# Altium integrated library TI Interface Optical Module IC.IntLib: 48 symbols (part 1 of 4)
Pins are listed as number, name and electrical type; pins without a type are passive.

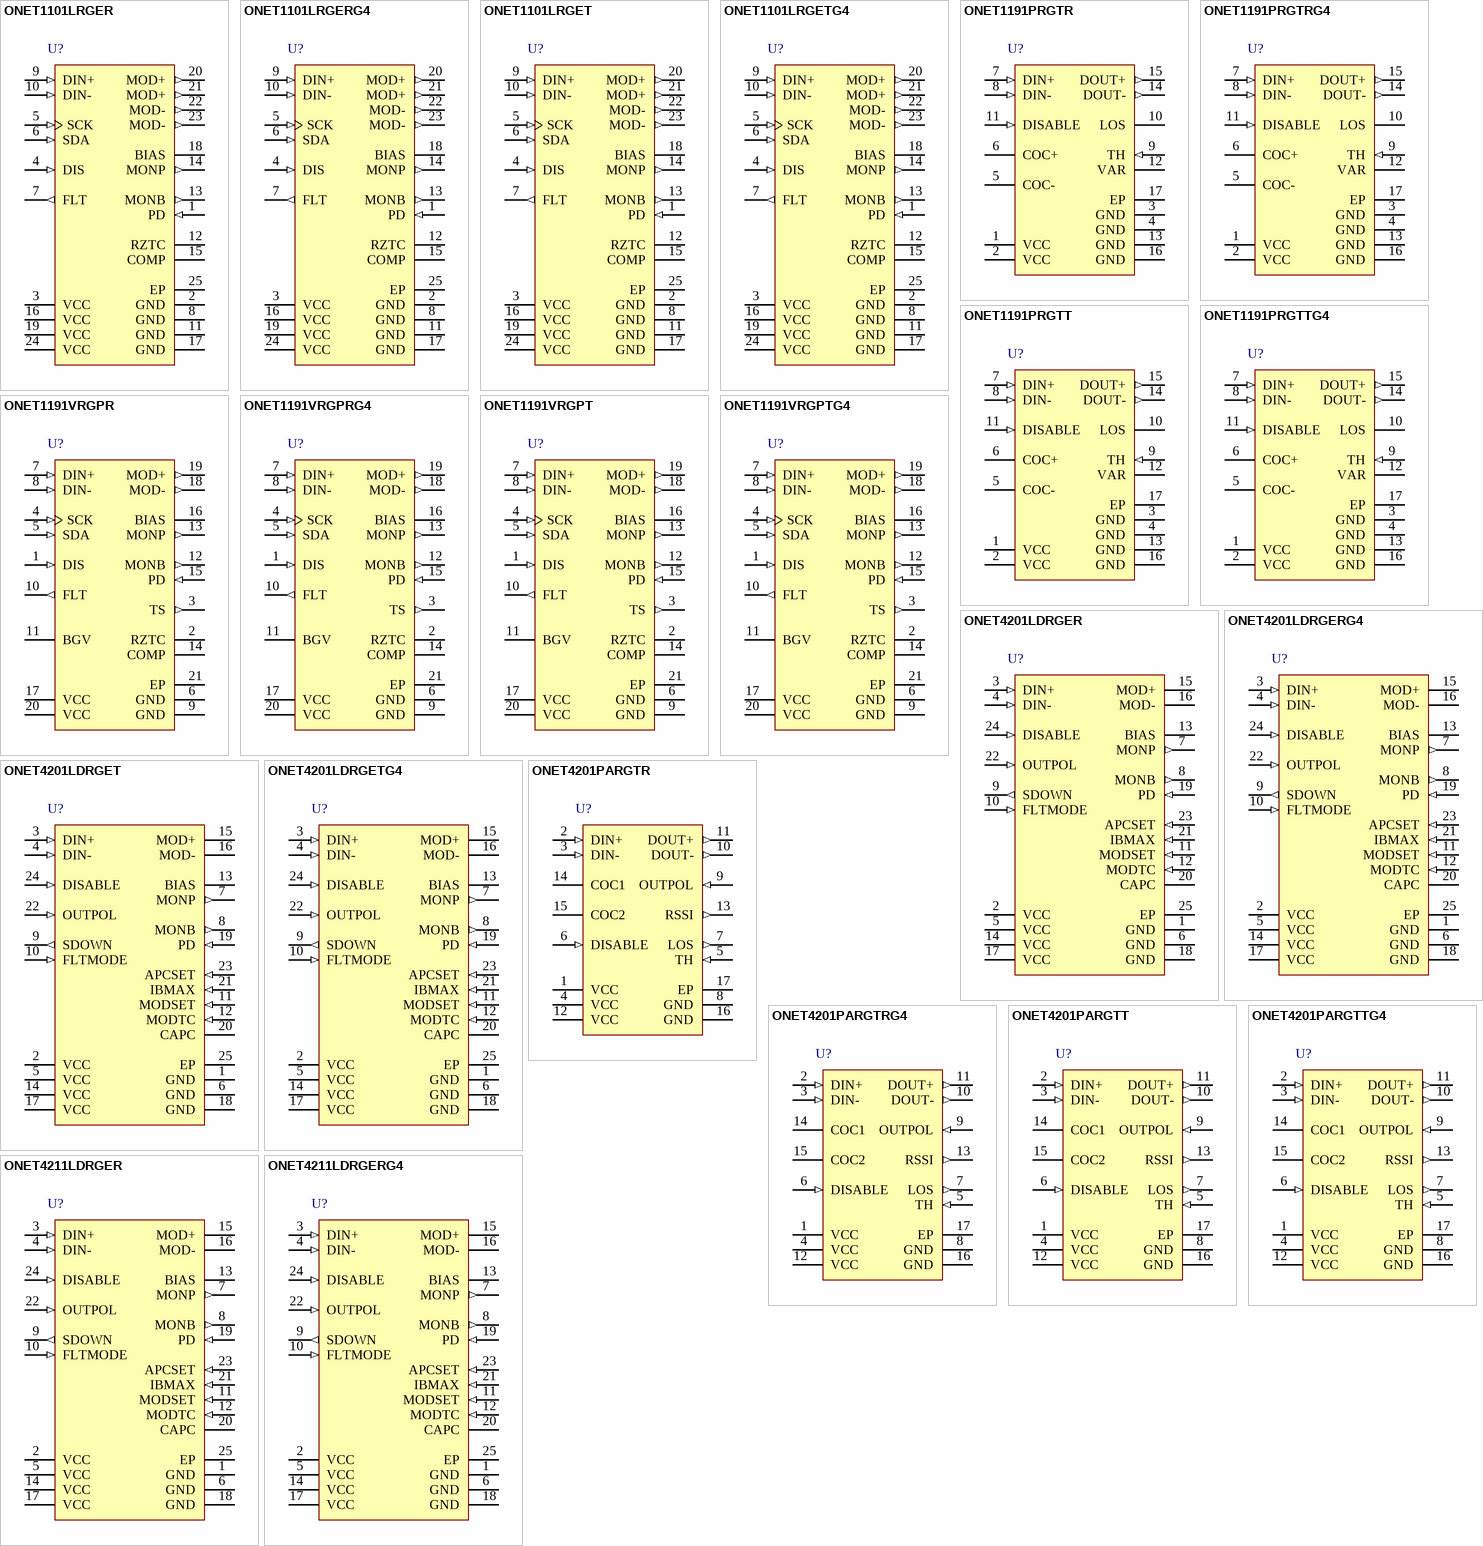
[diagram p0: symbols ONET1101LRGER to ONET4211LDRGERG4]

## ONET1101LRGER
designator U?
11.3 Gbps Laser Diode Driver with 2 Wire Interface, 85 mA Imod-Max, 3.3 V, -25 to +100 degC, 24-pin VQFN (RGE), Green (RoHS & no Sb/Br); Manufacturer: Texas Instruments; PartNumber: ONET1101LRGER; 2-Wire Interface: TRUE; Data Rate(Typ)(Gbps): 11.3; DJ(Typ)(ps): 5; Ibias-max(Max)(mA): 100; ICC(Max)(mA): 118; ICC(Typ)(mA): 66; Imod-max(Max)(mA): 85; SubFamily: Laser Driver; Tf-out(Typ)(ps): 25; VCC(V): 3.3; DatasheetVersion: SLLS883; PackageVersion: revG, Jul-2011; PackageReference: RGE24-2450X2450TP; PackageDescription: 24-Pin Plastic Quad Flatpack No-Lead, 4 x 4 mm Body, 0.5 mm Pitch; Supplier 1: Digi-Key; Supplier Part Number 1: ONET1101LRGER-ND; Supplier 2: Newark; Supplier Part Number 2: 94M8575; Supplier 3: Mouser; Supplier Part Number 3: 595-ONET1101LRGER; Automatic Power Control Loop: TRUE; Bias Current Digital Select: TRUE; Eco-Plan: Green (RoHS & no Sb/Br); Modulation Current Digital Select: TRUE; Tr-out(Typ)(ps): 25; Mounting Technology: Surface Mount; Code_JEDEC: MO-220; ComponentLink1Description: Datasheet; ComponentLink1URL: http://www.ti.com/general/docs/lit/getliterature.tsp?genericPartNumber=ONET1101L&fileType=pdf; ComponentLink2Description: URL Link1; ComponentLink2URL: SamplesURL:http://www.ti.com/product/onet1101l#samples
footprint RGE24-2450X2450TP (QFN, 24-Leads, Body 4x4mm, Pitch 0.5mm, Thermal Pad 2.45x2.45mm, TI Recommended)
pins: 1 PD (in) "Photodiode input. Pin can source or sink current dependent on register setting.", 2 GND (power) "Circuit ground.", 3 VCC (power) "3.3 V +/- 10% supply voltage.", 4 DIS (in) "Disables the bias and modulation currents when set to high state. Toggle to reset a fault condition.", 5 SCK (in) "2-wire interface serial clock. Connect a pull-up resistor (10 k ohm typical) to VCC.", 6 SDA (in) "2-wire interface serial data input. Connect a pull-up resistor (10 k ohm typical) to VCC.", 7 FLT (out) "Fault detection flag.", 8 GND (power) "Circuit ground.", 9 DIN+ (in) "Non-inverted data input. On-chip differentially 100 ohm terminated to DIN-. Must be AC coupled.", 10 DIN- (in) "Inverted data input. On-chip differentially 100 ohm terminated to DIN+. Must be AC coupled.", 11 GND (power) "Circuit ground.", 12 RZTC "Connect external zero TC 28.7 k ohm resistor to ground (GND). Used to generate a defined zero TC reference current for internal DACs.", 13 MONB (out) "Bias current monitor. Supplies a 1% replica of the bias current. Connect an external resistor to ground (GND). If the voltage at this pin exceeds 1.16 V, a fault is triggered. Choose a resistor that yields a MONB voltage of (See Datasheet)", 14 MONP (out) "Photodiode current monitor. Supplies a 12.5% replica of the photodiode current when PDRNG = 1X, a 25% replica when PDRNG = 01 and a 50% replica when PDRNG = 00.Connect an external resistor (5 k ohm typical) to ground (GND).", 15 COMP "Compensation pin used to control the bandwidth of the automatic power control (APC) loop.Connect a 0.01 uF capacitor to ground.", 16 VCC (power) "3.3 V +/- 10% supply voltage.", 17 GND (power) "Circuit ground.", 18 BIAS "Sinks or sources average bias current for laser in both APC and open loop modes.", 19 VCC (power) "3.3 V +/- 10% supply voltage.", 20 MOD+ (out) "Non-inverted modulation current output. IMOD flows into this pin when input data is high(current).", 21 MOD+ (out) "Non-inverted modulation current output. IMOD flows into this pin when input data is high(current).", 22 MOD- (out) "Inverted modulation current output. IMOD flows into this pin when input data is low (current).", 23 MOD- (out) "Inverted modulation current output. IMOD flows into this pin when input data is low (current).", 24 VCC (power) "3.3 V +/- 10% supply voltage.", 25 EP (power) "Exposed die pad (EP) must be grounded."

## ONET1101LRGERG4
designator U?
11.3 Gbps Laser Diode Driver with 2 Wire Interface, 85 mA Imod-Max, 3.3 V, -25 to +100 degC, 24-pin VQFN (RGE), Green (RoHS & no Sb/Br); Manufacturer: Texas Instruments; PartNumber: ONET1101LRGERG4; 2-Wire Interface: TRUE; Data Rate(Typ)(Gbps): 11.3; DJ(Typ)(ps): 5; Ibias-max(Max)(mA): 100; ICC(Max)(mA): 118; ICC(Typ)(mA): 66; Imod-max(Max)(mA): 85; SubFamily: Laser Driver; Tf-out(Typ)(ps): 25; VCC(V): 3.3; DatasheetVersion: SLLS883; PackageVersion: revG, Jul-2011; PackageReference: RGE24-2450X2450TP; PackageDescription: 24-Pin Plastic Quad Flatpack No-Lead, 4 x 4 mm Body, 0.5 mm Pitch; Supplier 1: Digi-Key; Supplier Part Number 1: ONET1101LRGERG4-ND; Supplier 2: Mouser; Supplier Part Number 2: 595-ONET1101LRGERG4; Automatic Power Control Loop: TRUE; Bias Current Digital Select: TRUE; Eco-Plan: Green (RoHS & no Sb/Br); Modulation Current Digital Select: TRUE; Tr-out(Typ)(ps): 25; Mounting Technology: Surface Mount; Code_JEDEC: MO-220; ComponentLink1Description: Datasheet; ComponentLink1URL: http://www.ti.com/general/docs/lit/getliterature.tsp?genericPartNumber=ONET1101L&fileType=pdf; ComponentLink2Description: URL Link1; ComponentLink2URL: SamplesURL:http://www.ti.com/product/onet1101l#samples
footprint RGE24-2450X2450TP (QFN, 24-Leads, Body 4x4mm, Pitch 0.5mm, Thermal Pad 2.45x2.45mm, TI Recommended)
pins: 1 PD (in) "Photodiode input. Pin can source or sink current dependent on register setting.", 2 GND (power) "Circuit ground.", 3 VCC (power) "3.3 V +/- 10% supply voltage.", 4 DIS (in) "Disables the bias and modulation currents when set to high state. Toggle to reset a fault condition.", 5 SCK (in) "2-wire interface serial clock. Connect a pull-up resistor (10 k ohm typical) to VCC.", 6 SDA (in) "2-wire interface serial data input. Connect a pull-up resistor (10 k ohm typical) to VCC.", 7 FLT (out) "Fault detection flag.", 8 GND (power) "Circuit ground.", 9 DIN+ (in) "Non-inverted data input. On-chip differentially 100 ohm terminated to DIN-. Must be AC coupled.", 10 DIN- (in) "Inverted data input. On-chip differentially 100 ohm terminated to DIN+. Must be AC coupled.", 11 GND (power) "Circuit ground.", 12 RZTC "Connect external zero TC 28.7 k ohm resistor to ground (GND). Used to generate a defined zero TC reference current for internal DACs.", 13 MONB (out) "Bias current monitor. Supplies a 1% replica of the bias current. Connect an external resistor to ground (GND). If the voltage at this pin exceeds 1.16 V, a fault is triggered. Choose a resistor that yields a MONB voltage of (See Datasheet)", 14 MONP (out) "Photodiode current monitor. Supplies a 12.5% replica of the photodiode current when PDRNG = 1X, a 25% replica when PDRNG = 01 and a 50% replica when PDRNG = 00.Connect an external resistor (5 k ohm typical) to ground (GND).", 15 COMP "Compensation pin used to control the bandwidth of the automatic power control (APC) loop.Connect a 0.01 uF capacitor to ground.", 16 VCC (power) "3.3 V +/- 10% supply voltage.", 17 GND (power) "Circuit ground.", 18 BIAS "Sinks or sources average bias current for laser in both APC and open loop modes.", 19 VCC (power) "3.3 V +/- 10% supply voltage.", 20 MOD+ (out) "Non-inverted modulation current output. IMOD flows into this pin when input data is high(current).", 21 MOD+ (out) "Non-inverted modulation current output. IMOD flows into this pin when input data is high(current).", 22 MOD- (out) "Inverted modulation current output. IMOD flows into this pin when input data is low (current).", 23 MOD- (out) "Inverted modulation current output. IMOD flows into this pin when input data is low (current).", 24 VCC (power) "3.3 V +/- 10% supply voltage.", 25 EP (power) "Exposed die pad (EP) must be grounded."

## ONET1101LRGET
designator U?
11.3 Gbps Laser Diode Driver with 2 Wire Interface, 85 mA Imod-Max, 3.3 V, -25 to +100 degC, 24-pin VQFN (RGE), Green (RoHS & no Sb/Br); Manufacturer: Texas Instruments; PartNumber: ONET1101LRGET; 2-Wire Interface: TRUE; Data Rate(Typ)(Gbps): 11.3; DJ(Typ)(ps): 5; Ibias-max(Max)(mA): 100; ICC(Max)(mA): 118; ICC(Typ)(mA): 66; Imod-max(Max)(mA): 85; SubFamily: Laser Driver; Tf-out(Typ)(ps): 25; VCC(V): 3.3; DatasheetVersion: SLLS883; PackageVersion: revG, Jul-2011; PackageReference: RGE24-2450X2450TP; PackageDescription: 24-Pin Plastic Quad Flatpack No-Lead, 4 x 4 mm Body, 0.5 mm Pitch; Supplier 1: Digi-Key; Supplier Part Number 1: 296-23314-2-ND; Supplier 2: Digi-Key; Supplier Part Number 2: 296-23314-1-ND; Supplier 3: Digi-Key; Supplier Part Number 3: 296-23314-6-ND; Supplier 4: Farnell; Supplier Part Number 4: 1755021; Supplier 5: Mouser; Supplier Part Number 5: 595-ONET1101LRGET; Automatic Power Control Loop: TRUE; Bias Current Digital Select: TRUE; Eco-Plan: Green (RoHS & no Sb/Br); Modulation Current Digital Select: TRUE; Tr-out(Typ)(ps): 25; Mounting Technology: Surface Mount; Code_JEDEC: MO-220; ComponentLink1Description: Datasheet; ComponentLink1URL: http://www.ti.com/general/docs/lit/getliterature.tsp?genericPartNumber=ONET1101L&fileType=pdf; ComponentLink2Description: URL Link1; ComponentLink2URL: SamplesURL:http://www.ti.com/product/onet1101l#samples
footprint RGE24-2450X2450TP (QFN, 24-Leads, Body 4x4mm, Pitch 0.5mm, Thermal Pad 2.45x2.45mm, TI Recommended)
pins: 1 PD (in) "Photodiode input. Pin can source or sink current dependent on register setting.", 2 GND (power) "Circuit ground.", 3 VCC (power) "3.3 V +/- 10% supply voltage.", 4 DIS (in) "Disables the bias and modulation currents when set to high state. Toggle to reset a fault condition.", 5 SCK (in) "2-wire interface serial clock. Connect a pull-up resistor (10 k ohm typical) to VCC.", 6 SDA (in) "2-wire interface serial data input. Connect a pull-up resistor (10 k ohm typical) to VCC.", 7 FLT (out) "Fault detection flag.", 8 GND (power) "Circuit ground.", 9 DIN+ (in) "Non-inverted data input. On-chip differentially 100 ohm terminated to DIN-. Must be AC coupled.", 10 DIN- (in) "Inverted data input. On-chip differentially 100 ohm terminated to DIN+. Must be AC coupled.", 11 GND (power) "Circuit ground.", 12 RZTC "Connect external zero TC 28.7 k ohm resistor to ground (GND). Used to generate a defined zero TC reference current for internal DACs.", 13 MONB (out) "Bias current monitor. Supplies a 1% replica of the bias current. Connect an external resistor to ground (GND). If the voltage at this pin exceeds 1.16 V, a fault is triggered. Choose a resistor that yields a MONB voltage of (See Datasheet)", 14 MONP (out) "Photodiode current monitor. Supplies a 12.5% replica of the photodiode current when PDRNG = 1X, a 25% replica when PDRNG = 01 and a 50% replica when PDRNG = 00.Connect an external resistor (5 k ohm typical) to ground (GND).", 15 COMP "Compensation pin used to control the bandwidth of the automatic power control (APC) loop.Connect a 0.01 uF capacitor to ground.", 16 VCC (power) "3.3 V +/- 10% supply voltage.", 17 GND (power) "Circuit ground.", 18 BIAS "Sinks or sources average bias current for laser in both APC and open loop modes.", 19 VCC (power) "3.3 V +/- 10% supply voltage.", 20 MOD+ (out) "Non-inverted modulation current output. IMOD flows into this pin when input data is high(current).", 21 MOD+ (out) "Non-inverted modulation current output. IMOD flows into this pin when input data is high(current).", 22 MOD- (out) "Inverted modulation current output. IMOD flows into this pin when input data is low (current).", 23 MOD- (out) "Inverted modulation current output. IMOD flows into this pin when input data is low (current).", 24 VCC (power) "3.3 V +/- 10% supply voltage.", 25 EP (power) "Exposed die pad (EP) must be grounded."

## ONET1101LRGETG4
designator U?
11.3 Gbps Laser Diode Driver with 2 Wire Interface, 85 mA Imod-Max, 3.3 V, -25 to +100 degC, 24-pin VQFN (RGE), Green (RoHS & no Sb/Br); Manufacturer: Texas Instruments; PartNumber: ONET1101LRGETG4; 2-Wire Interface: TRUE; Data Rate(Typ)(Gbps): 11.3; DJ(Typ)(ps): 5; Ibias-max(Max)(mA): 100; ICC(Max)(mA): 118; ICC(Typ)(mA): 66; Imod-max(Max)(mA): 85; SubFamily: Laser Driver; Tf-out(Typ)(ps): 25; VCC(V): 3.3; DatasheetVersion: SLLS883; PackageVersion: revG, Jul-2011; PackageReference: RGE24-2450X2450TP; PackageDescription: 24-Pin Plastic Quad Flatpack No-Lead, 4 x 4 mm Body, 0.5 mm Pitch; Supplier 1: Digi-Key; Supplier Part Number 1: ONET1101LRGETG4-ND; Supplier 2: Newark; Supplier Part Number 2: 03P4599; Supplier 3: Mouser; Supplier Part Number 3: 595-ONET1101LRGETG4; Automatic Power Control Loop: TRUE; Bias Current Digital Select: TRUE; Eco-Plan: Green (RoHS & no Sb/Br); Modulation Current Digital Select: TRUE; Tr-out(Typ)(ps): 25; Mounting Technology: Surface Mount; Code_JEDEC: MO-220; ComponentLink1Description: Datasheet; ComponentLink1URL: http://www.ti.com/general/docs/lit/getliterature.tsp?genericPartNumber=ONET1101L&fileType=pdf; ComponentLink2Description: URL Link1; ComponentLink2URL: SamplesURL:http://www.ti.com/product/onet1101l#samples
footprint RGE24-2450X2450TP (QFN, 24-Leads, Body 4x4mm, Pitch 0.5mm, Thermal Pad 2.45x2.45mm, TI Recommended)
pins: 1 PD (in) "Photodiode input. Pin can source or sink current dependent on register setting.", 2 GND (power) "Circuit ground.", 3 VCC (power) "3.3 V +/- 10% supply voltage.", 4 DIS (in) "Disables the bias and modulation currents when set to high state. Toggle to reset a fault condition.", 5 SCK (in) "2-wire interface serial clock. Connect a pull-up resistor (10 k ohm typical) to VCC.", 6 SDA (in) "2-wire interface serial data input. Connect a pull-up resistor (10 k ohm typical) to VCC.", 7 FLT (out) "Fault detection flag.", 8 GND (power) "Circuit ground.", 9 DIN+ (in) "Non-inverted data input. On-chip differentially 100 ohm terminated to DIN-. Must be AC coupled.", 10 DIN- (in) "Inverted data input. On-chip differentially 100 ohm terminated to DIN+. Must be AC coupled.", 11 GND (power) "Circuit ground.", 12 RZTC "Connect external zero TC 28.7 k ohm resistor to ground (GND). Used to generate a defined zero TC reference current for internal DACs.", 13 MONB (out) "Bias current monitor. Supplies a 1% replica of the bias current. Connect an external resistor to ground (GND). If the voltage at this pin exceeds 1.16 V, a fault is triggered. Choose a resistor that yields a MONB voltage of (See Datasheet)", 14 MONP (out) "Photodiode current monitor. Supplies a 12.5% replica of the photodiode current when PDRNG = 1X, a 25% replica when PDRNG = 01 and a 50% replica when PDRNG = 00.Connect an external resistor (5 k ohm typical) to ground (GND).", 15 COMP "Compensation pin used to control the bandwidth of the automatic power control (APC) loop.Connect a 0.01 uF capacitor to ground.", 16 VCC (power) "3.3 V +/- 10% supply voltage.", 17 GND (power) "Circuit ground.", 18 BIAS "Sinks or sources average bias current for laser in both APC and open loop modes.", 19 VCC (power) "3.3 V +/- 10% supply voltage.", 20 MOD+ (out) "Non-inverted modulation current output. IMOD flows into this pin when input data is high(current).", 21 MOD+ (out) "Non-inverted modulation current output. IMOD flows into this pin when input data is high(current).", 22 MOD- (out) "Inverted modulation current output. IMOD flows into this pin when input data is low (current).", 23 MOD- (out) "Inverted modulation current output. IMOD flows into this pin when input data is low (current).", 24 VCC (power) "3.3 V +/- 10% supply voltage.", 25 EP (power) "Exposed die pad (EP) must be grounded."

## ONET1191PRGTR
designator U?
11.3-Gbps Limiting Amplifier, 40dB, -40 to 85 degC, 16-Pin QFN (RGT), Green (RoHS & no Sb/Br); Manufacturer: Texas Instruments; PartNumber: ONET1191PRGTR; Data Rate(Typ)(Gbps): 11.3; DJ(Typ)(ps): 4; Gain(Typ)(dB): 40; ICC(Max)(mA): 49; ICC(Nom)(mA): 33; LOS: TRUE; RJ(Max)(ps): 2; tf(Typ)(ps): 25; VCC(V): 3.3; Vin Max(Min)(mV p-p): 2000; Vin Min(Nom)(mV p-p): 2.5; Vout(Min)(mV p-p): 600; DatasheetVersion: SLLS754; PackageVersion: revH, Oct-2011; PackageReference: RGT16-1700X1700TP; PackageDescription: 16-Pin Plastic Quad Flat No-Lead, 3 x 3 mm Body, 0.5 mm Pitch, 1.7 x 1.7 mm Exposed Pad; Supplier 1: Digi-Key; Supplier Part Number 1: ONET1191PRGTR-ND; Supplier 2: Newark; Supplier Part Number 2: 18M2687; Supplier 3: Mouser; Supplier Part Number 3: 595-ONET1191PRGTR; Eco-Plan: Green (RoHS & no Sb/Br); SubFamily: Limiting Amplifier; tr(Typ)(ps): 25; Mounting Technology: Surface Mount; Code_JEDEC: MO-220; ComponentLink1Description: Datasheet; ComponentLink1URL: http://www.ti.com/general/docs/lit/getliterature.tsp?genericPartNumber=ONET1191P&fileType=pdf; ComponentLink2Description: URL Link1; ComponentLink2URL: SamplesURL:http://www.ti.com/product/onet1191p#samples
footprint RGT16-1700X1700TP (QFN, 16-Leads, Body 3x3mm, Pitch 0.5mm, Thermal Pad 1.7x1.7mm, TI Recommended)
pins: 1 VCC (power) "3.3V +/-10% supply voltage", 2 VCC (power) "3.3V +/-10% supply voltage", 3 GND (power) "Circuit ground", 4 GND (power) "Circuit ground", 5 COC- "Offset cancellation filter capacitor minus terminal. An external 0.1 uF filter capacitor must be connected between this pin and COC+ (pin 6)", 6 COC+ "Offset cancellation filter capacitor plus terminal. An external 0.1 uF filter capacitor must be connected between this pin and COC-(pin 5)", 7 DIN+ (in) "Noninverted data input. On-chip, 50-ohm terminated to COC+. Differentially 100-ohm terminated to DIN-", 8 DIN- (in) "Inverted data input. On-chip, 50-ohm terminated to COC-. Differentially 100-ohm terminated toDIN+", 9 TH (in) "LOS threshold adjustment with resistor to GND", 10 LOS (oc) "High level indicates that the input signal amplitude is below the programmed threshold level.Open-drain output. Requires an external 10-k ohm pullup resistor to VCC for proper operation.", 11 DISABLE (in) "Disables the output stage when set to a high level", 12 VAR "Variable output amplitude control.Output amplitude can be reduced to 400mVpp by grounding the VAR pin.Output amplitude can be set from 400mVpp to 700 mVpp by  connecting a 0 to 100-k ohm resistor to GND or leaving the pin (See Datasheet)", 13 GND (power) "Circuit ground", 14 DOUT- (out) "Inverted data output. On-chip, 50-ohm back-terminated to VCC.", 15 DOUT+ (out) "Noninverted data output. On-chip, 50-ohm back-terminated to VCC.", 16 GND (power) "Circuit ground.", 17 EP (power) "Exposed die pad (EP) must be grounded"

## ONET1191PRGTRG4
designator U?
11.3-Gbps Limiting Amplifier, 40dB, -40 to 85 degC, 16-Pin QFN (RGT), Green (RoHS & no Sb/Br); Manufacturer: Texas Instruments; PartNumber: ONET1191PRGTRG4; Data Rate(Typ)(Gbps): 11.3; DJ(Typ)(ps): 4; Gain(Typ)(dB): 40; ICC(Max)(mA): 49; ICC(Nom)(mA): 33; LOS: TRUE; RJ(Max)(ps): 2; tf(Typ)(ps): 25; VCC(V): 3.3; Vin Max(Min)(mV p-p): 2000; Vin Min(Nom)(mV p-p): 2.5; Vout(Min)(mV p-p): 600; DatasheetVersion: SLLS754; PackageVersion: revH, Oct-2011; PackageReference: RGT16-1700X1700TP; PackageDescription: 16-Pin Plastic Quad Flat No-Lead, 3 x 3 mm Body, 0.5 mm Pitch, 1.7 x 1.7 mm Exposed Pad; Supplier 1: Digi-Key; Supplier Part Number 1: ONET1191PRGTRG4-ND; Supplier 2: Newark; Supplier Part Number 2: 28M6638; Supplier 3: Mouser; Supplier Part Number 3: 595-ONET1191PRGTRG4; Eco-Plan: Green (RoHS & no Sb/Br); SubFamily: Limiting Amplifier; tr(Typ)(ps): 25; Mounting Technology: Surface Mount; Code_JEDEC: MO-220; ComponentLink1Description: Datasheet; ComponentLink1URL: http://www.ti.com/general/docs/lit/getliterature.tsp?genericPartNumber=ONET1191P&fileType=pdf; ComponentLink2Description: URL Link1; ComponentLink2URL: SamplesURL:http://www.ti.com/product/onet1191p#samples
footprint RGT16-1700X1700TP (QFN, 16-Leads, Body 3x3mm, Pitch 0.5mm, Thermal Pad 1.7x1.7mm, TI Recommended)
pins: 1 VCC (power) "3.3V +/-10% supply voltage", 2 VCC (power) "3.3V +/-10% supply voltage", 3 GND (power) "Circuit ground", 4 GND (power) "Circuit ground", 5 COC- "Offset cancellation filter capacitor minus terminal. An external 0.1 uF filter capacitor must be connected between this pin and COC+ (pin 6)", 6 COC+ "Offset cancellation filter capacitor plus terminal. An external 0.1 uF filter capacitor must be connected between this pin and COC-(pin 5)", 7 DIN+ (in) "Noninverted data input. On-chip, 50-ohm terminated to COC+. Differentially 100-ohm terminated to DIN-", 8 DIN- (in) "Inverted data input. On-chip, 50-ohm terminated to COC-. Differentially 100-ohm terminated toDIN+", 9 TH (in) "LOS threshold adjustment with resistor to GND", 10 LOS (oc) "High level indicates that the input signal amplitude is below the programmed threshold level.Open-drain output. Requires an external 10-k ohm pullup resistor to VCC for proper operation.", 11 DISABLE (in) "Disables the output stage when set to a high level", 12 VAR "Variable output amplitude control.Output amplitude can be reduced to 400mVpp by grounding the VAR pin.Output amplitude can be set from 400mVpp to 700 mVpp by  connecting a 0 to 100-k ohm resistor to GND or leaving the pin (See Datasheet)", 13 GND (power) "Circuit ground", 14 DOUT- (out) "Inverted data output. On-chip, 50-ohm back-terminated to VCC.", 15 DOUT+ (out) "Noninverted data output. On-chip, 50-ohm back-terminated to VCC.", 16 GND (power) "Circuit ground.", 17 EP (power) "Exposed die pad (EP) must be grounded"

## ONET1191PRGTT
designator U?
11.3-Gbps Limiting Amplifier, 40dB, -40 to 85 degC, 16-Pin QFN (RGT), Green (RoHS & no Sb/Br); Manufacturer: Texas Instruments; PartNumber: ONET1191PRGTT; Data Rate(Typ)(Gbps): 11.3; DJ(Typ)(ps): 4; Gain(Typ)(dB): 40; ICC(Max)(mA): 49; ICC(Nom)(mA): 33; LOS: TRUE; RJ(Max)(ps): 2; tf(Typ)(ps): 25; VCC(V): 3.3; Vin Max(Min)(mV p-p): 2000; Vin Min(Nom)(mV p-p): 2.5; Vout(Min)(mV p-p): 600; DatasheetVersion: SLLS754; PackageVersion: revH, Oct-2011; PackageReference: RGT16-1700X1700TP; PackageDescription: 16-Pin Plastic Quad Flat No-Lead, 3 x 3 mm Body, 0.5 mm Pitch, 1.7 x 1.7 mm Exposed Pad; Supplier 1: Digi-Key; Supplier Part Number 1: 296-20765-2-ND; Supplier 2: Digi-Key; Supplier Part Number 2: 296-20765-1-ND; Supplier 3: Digi-Key; Supplier Part Number 3: 296-20765-6-ND; Supplier 4: Newark; Supplier Part Number 4: 18M2688; Supplier 5: Mouser; Supplier Part Number 5: 595-ONET1191PRGTT; Eco-Plan: Green (RoHS & no Sb/Br); SubFamily: Limiting Amplifier; tr(Typ)(ps): 25; Mounting Technology: Surface Mount; Code_JEDEC: MO-220; ComponentLink1Description: Datasheet; ComponentLink1URL: http://www.ti.com/general/docs/lit/getliterature.tsp?genericPartNumber=ONET1191P&fileType=pdf; ComponentLink2Description: URL Link1; ComponentLink2URL: SamplesURL:http://www.ti.com/product/onet1191p#samples
footprint RGT16-1700X1700TP (QFN, 16-Leads, Body 3x3mm, Pitch 0.5mm, Thermal Pad 1.7x1.7mm, TI Recommended)
pins: 1 VCC (power) "3.3V +/-10% supply voltage", 2 VCC (power) "3.3V +/-10% supply voltage", 3 GND (power) "Circuit ground", 4 GND (power) "Circuit ground", 5 COC- "Offset cancellation filter capacitor minus terminal. An external 0.1 uF filter capacitor must be connected between this pin and COC+ (pin 6)", 6 COC+ "Offset cancellation filter capacitor plus terminal. An external 0.1 uF filter capacitor must be connected between this pin and COC-(pin 5)", 7 DIN+ (in) "Noninverted data input. On-chip, 50-ohm terminated to COC+. Differentially 100-ohm terminated to DIN-", 8 DIN- (in) "Inverted data input. On-chip, 50-ohm terminated to COC-. Differentially 100-ohm terminated toDIN+", 9 TH (in) "LOS threshold adjustment with resistor to GND", 10 LOS (oc) "High level indicates that the input signal amplitude is below the programmed threshold level.Open-drain output. Requires an external 10-k ohm pullup resistor to VCC for proper operation.", 11 DISABLE (in) "Disables the output stage when set to a high level", 12 VAR "Variable output amplitude control.Output amplitude can be reduced to 400mVpp by grounding the VAR pin.Output amplitude can be set from 400mVpp to 700 mVpp by  connecting a 0 to 100-k ohm resistor to GND or leaving the pin (See Datasheet)", 13 GND (power) "Circuit ground", 14 DOUT- (out) "Inverted data output. On-chip, 50-ohm back-terminated to VCC.", 15 DOUT+ (out) "Noninverted data output. On-chip, 50-ohm back-terminated to VCC.", 16 GND (power) "Circuit ground.", 17 EP (power) "Exposed die pad (EP) must be grounded"

## ONET1191PRGTTG4
designator U?
11.3-Gbps Limiting Amplifier, 40dB, -40 to 85 degC, 16-Pin QFN (RGT), Green (RoHS & no Sb/Br); Manufacturer: Texas Instruments; PartNumber: ONET1191PRGTTG4; Data Rate(Typ)(Gbps): 11.3; DJ(Typ)(ps): 4; Gain(Typ)(dB): 40; ICC(Max)(mA): 49; ICC(Nom)(mA): 33; LOS: TRUE; RJ(Max)(ps): 2; tf(Typ)(ps): 25; VCC(V): 3.3; Vin Max(Min)(mV p-p): 2000; Vin Min(Nom)(mV p-p): 2.5; Vout(Min)(mV p-p): 600; DatasheetVersion: SLLS754; PackageVersion: revH, Oct-2011; PackageReference: RGT16-1700X1700TP; PackageDescription: 16-Pin Plastic Quad Flat No-Lead, 3 x 3 mm Body, 0.5 mm Pitch, 1.7 x 1.7 mm Exposed Pad; Supplier 1: Digi-Key; Supplier Part Number 1: ONET1191PRGTTG4-ND; Supplier 2: Newark; Supplier Part Number 2: 28M6639; Supplier 3: Mouser; Supplier Part Number 3: 595-ONET1191PRGTTG4; Eco-Plan: Green (RoHS & no Sb/Br); SubFamily: Limiting Amplifier; tr(Typ)(ps): 25; Mounting Technology: Surface Mount; Code_JEDEC: MO-220; ComponentLink1Description: Datasheet; ComponentLink1URL: http://www.ti.com/general/docs/lit/getliterature.tsp?genericPartNumber=ONET1191P&fileType=pdf; ComponentLink2Description: URL Link1; ComponentLink2URL: SamplesURL:http://www.ti.com/product/onet1191p#samples
footprint RGT16-1700X1700TP (QFN, 16-Leads, Body 3x3mm, Pitch 0.5mm, Thermal Pad 1.7x1.7mm, TI Recommended)
pins: 1 VCC (power) "3.3V +/-10% supply voltage", 2 VCC (power) "3.3V +/-10% supply voltage", 3 GND (power) "Circuit ground", 4 GND (power) "Circuit ground", 5 COC- "Offset cancellation filter capacitor minus terminal. An external 0.1 uF filter capacitor must be connected between this pin and COC+ (pin 6)", 6 COC+ "Offset cancellation filter capacitor plus terminal. An external 0.1 uF filter capacitor must be connected between this pin and COC-(pin 5)", 7 DIN+ (in) "Noninverted data input. On-chip, 50-ohm terminated to COC+. Differentially 100-ohm terminated to DIN-", 8 DIN- (in) "Inverted data input. On-chip, 50-ohm terminated to COC-. Differentially 100-ohm terminated toDIN+", 9 TH (in) "LOS threshold adjustment with resistor to GND", 10 LOS (oc) "High level indicates that the input signal amplitude is below the programmed threshold level.Open-drain output. Requires an external 10-k ohm pullup resistor to VCC for proper operation.", 11 DISABLE (in) "Disables the output stage when set to a high level", 12 VAR "Variable output amplitude control.Output amplitude can be reduced to 400mVpp by grounding the VAR pin.Output amplitude can be set from 400mVpp to 700 mVpp by  connecting a 0 to 100-k ohm resistor to GND or leaving the pin (See Datasheet)", 13 GND (power) "Circuit ground", 14 DOUT- (out) "Inverted data output. On-chip, 50-ohm back-terminated to VCC.", 15 DOUT+ (out) "Noninverted data output. On-chip, 50-ohm back-terminated to VCC.", 16 GND (power) "Circuit ground.", 17 EP (power) "Exposed die pad (EP) must be grounded"

## ONET1191VRGPR
designator U?
11.3 Gbps Differential VCSEL Driver with 2 Wire Interface, 45 mA Imod-Max, 3.3 V, -40 to +85 degC, 20-pin QFN (RGP), Green (RoHS & no Sb/Br); Manufacturer: Texas Instruments; PartNumber: ONET1191VRGPR; 2-Wire Interface: TRUE; Data Rate(Typ)(Gbps): 11.3; DJ(Typ)(ps): 4; Ibias-max(Max)(mA): 20; ICC(Max)(mA): 72; ICC(Typ)(mA): 35; Imod-max(Max)(mA): 45; SubFamily: Laser Driver; Tf-out(Typ)(ps): 25; VCC(V): 3.3; DatasheetVersion: SLLS750A; PackageVersion: revG, Jul-2011; PackageReference: RGP20-2700X2700TP; PackageDescription: 20-Pin Plastic Quad Flatpack No-Lead, 4 x 4 mm Body, 0.5 mm Pitch; Supplier 1: Digi-Key; Supplier Part Number 1: ONET1191VRGPR-ND; Supplier 2: Newark; Supplier Part Number 2: 06M7521; Supplier 3: Mouser; Supplier Part Number 3: 595-ONET1191VRGPR; Automatic Power Control Loop: TRUE; Bias Current Digital Select: TRUE; Eco-Plan: Green (RoHS & no Sb/Br); Modulation Current Digital Select: TRUE; Tr-out(Typ)(ps): 20; Mounting Technology: Surface Mount; Code_JEDEC: MO-220; ComponentLink1Description: Datasheet; ComponentLink1URL: http://www.ti.com/general/docs/lit/getliterature.tsp?genericPartNumber=ONET1191V&fileType=pdf; ComponentLink2Description: URL Link1; ComponentLink2URL: SamplesURL:http://www.ti.com/product/onet1191v#samples
footprint RGP20-2700X2700TP (QFN, 20-Leads, Body 4x4mm, Pitch 0.5mm, Thermal Pad 2.7x2.7mm, TI Recommended)
pins: 1 DIS (in) "Disables both bias and modulation currents when set to high state. Toggle to reset a fault condition.", 2 RZTC "Connect external zero-TC, 28.7-k ohm resistor to ground (GND). Used to generate a defined zero-TC reference current for internal DACs.", 3 TS (out) "Temperature sensor output. Not buffered, capacitive load only.", 4 SCK (in) "Two-wire interface serial clock. Includes a 100-k ohm pullup resistor to VCC.", 5 SDA (in) "Two-wire interface serial data input. Includes a 100-k ohm pullup resistor to VCC.", 6 GND (power) "Circuit ground.", 7 DIN+ (in) "Noninverted data input. On-chip differentially 100- ohm terminated to DIN-. Must be ac-coupled.", 8 DIN- (in) "Inverted data input. On-chip differentially 100- ohm terminated to DIN+. Must be ac-coupled.", 9 GND (power) "Circuit ground.", 10 FLT (out) "Fault detection flag.", 11 BGV (oc) "Buffered bandgap voltage with open emitter output. This is a replica of the bandgap voltage at RZTC. For best matching, use the same 28.7-k ohm resistor to GND as used at RZTC.", 12 MONB (out) "Bias current monitor. Sources a 3.3% replica of the bias current. Connect an external resistor to  ground (GND). If the voltage at this pin exceeds 1.15 V, a fault is triggered. Typically, choose a resistor to give MONB (See Datasheet)", 13 MONP (out) "Photodiode current monitor. Sources a 50% replica of the photodiode current when PDR = 1 and a 250% replica when PDR = 0. Connect an external resistor (5 k ohm typical) to ground (GND).", 14 COMP "Compensation pin used to control the bandwidth of the APC loop. Connect a 0.01-uF capacitor to ground.", 15 PD (in) "Photodiode input. Pin can source or sink current dependent on PDP register setting. PDP = 0:source; PDP = 1: sink. Pin supplies >1.5-V reverse bias.", 16 BIAS "Sinks average bias current for VCSEL in both APC and open-loop modes. Connect to laser cathodethrough an inductor. BLM15HG102SN1D recommended.", 17 VCC (power) "3.3-V +/-10% supply voltage.", 18 MOD- (out) "Inverted modulation current output. On-chip, 55- ohm back-terminated to VCC.", 19 MOD+ (out) "Noninverted modulation current output. On-chip, 55- ohm back-terminated to VCC.", 20 VCC (power) "3.3-V +/-10% supply voltage.", 21 EP (power) "Exposed die pad (EP) must be grounded."

## ONET1191VRGPRG4
designator U?
11.3 Gbps Differential VCSEL Driver with 2 Wire Interface, 45 mA Imod-Max, 3.3 V, -40 to +85 degC, 20-pin QFN (RGP), Green (RoHS & no Sb/Br); Manufacturer: Texas Instruments; PartNumber: ONET1191VRGPRG4; 2-Wire Interface: TRUE; Data Rate(Typ)(Gbps): 11.3; DJ(Typ)(ps): 4; Ibias-max(Max)(mA): 20; ICC(Max)(mA): 72; ICC(Typ)(mA): 35; Imod-max(Max)(mA): 45; SubFamily: Laser Driver; Tf-out(Typ)(ps): 25; VCC(V): 3.3; DatasheetVersion: SLLS750A; PackageVersion: revG, Jul-2011; PackageReference: RGP20-2700X2700TP; PackageDescription: 20-Pin Plastic Quad Flatpack No-Lead, 4 x 4 mm Body, 0.5 mm Pitch; Supplier 1: Digi-Key; Supplier Part Number 1: ONET1191VRGPRG4-ND; Supplier 2: Newark; Supplier Part Number 2: 06M7522; Supplier 3: Mouser; Supplier Part Number 3: 595-ONET1191VRGPRG4; Automatic Power Control Loop: TRUE; Bias Current Digital Select: TRUE; Eco-Plan: Green (RoHS & no Sb/Br); Modulation Current Digital Select: TRUE; Tr-out(Typ)(ps): 20; Mounting Technology: Surface Mount; Code_JEDEC: MO-220; ComponentLink1Description: Datasheet; ComponentLink1URL: http://www.ti.com/general/docs/lit/getliterature.tsp?genericPartNumber=ONET1191V&fileType=pdf; ComponentLink2Description: URL Link1; ComponentLink2URL: SamplesURL:http://www.ti.com/product/onet1191v#samples
footprint RGP20-2700X2700TP (QFN, 20-Leads, Body 4x4mm, Pitch 0.5mm, Thermal Pad 2.7x2.7mm, TI Recommended)
pins: 1 DIS (in) "Disables both bias and modulation currents when set to high state. Toggle to reset a fault condition.", 2 RZTC "Connect external zero-TC, 28.7-k ohm resistor to ground (GND). Used to generate a defined zero-TC reference current for internal DACs.", 3 TS (out) "Temperature sensor output. Not buffered, capacitive load only.", 4 SCK (in) "Two-wire interface serial clock. Includes a 100-k ohm pullup resistor to VCC.", 5 SDA (in) "Two-wire interface serial data input. Includes a 100-k ohm pullup resistor to VCC.", 6 GND (power) "Circuit ground.", 7 DIN+ (in) "Noninverted data input. On-chip differentially 100- ohm terminated to DIN-. Must be ac-coupled.", 8 DIN- (in) "Inverted data input. On-chip differentially 100- ohm terminated to DIN+. Must be ac-coupled.", 9 GND (power) "Circuit ground.", 10 FLT (out) "Fault detection flag.", 11 BGV (oc) "Buffered bandgap voltage with open emitter output. This is a replica of the bandgap voltage at RZTC. For best matching, use the same 28.7-k ohm resistor to GND as used at RZTC.", 12 MONB (out) "Bias current monitor. Sources a 3.3% replica of the bias current. Connect an external resistor to  ground (GND). If the voltage at this pin exceeds 1.15 V, a fault is triggered. Typically, choose a resistor to give MONB (See Datasheet)", 13 MONP (out) "Photodiode current monitor. Sources a 50% replica of the photodiode current when PDR = 1 and a 250% replica when PDR = 0. Connect an external resistor (5 k ohm typical) to ground (GND).", 14 COMP "Compensation pin used to control the bandwidth of the APC loop. Connect a 0.01-uF capacitor to ground.", 15 PD (in) "Photodiode input. Pin can source or sink current dependent on PDP register setting. PDP = 0:source; PDP = 1: sink. Pin supplies >1.5-V reverse bias.", 16 BIAS "Sinks average bias current for VCSEL in both APC and open-loop modes. Connect to laser cathodethrough an inductor. BLM15HG102SN1D recommended.", 17 VCC (power) "3.3-V +/-10% supply voltage.", 18 MOD- (out) "Inverted modulation current output. On-chip, 55- ohm back-terminated to VCC.", 19 MOD+ (out) "Noninverted modulation current output. On-chip, 55- ohm back-terminated to VCC.", 20 VCC (power) "3.3-V +/-10% supply voltage.", 21 EP (power) "Exposed die pad (EP) must be grounded."

## ONET1191VRGPT
designator U?
11.3 Gbps Differential VCSEL Driver with 2 Wire Interface, 45 mA Imod-Max, 3.3 V, -40 to +85 degC, 20-pin QFN (RGP), Green (RoHS & no Sb/Br); Manufacturer: Texas Instruments; PartNumber: ONET1191VRGPT; 2-Wire Interface: TRUE; Data Rate(Typ)(Gbps): 11.3; DJ(Typ)(ps): 4; Ibias-max(Max)(mA): 20; ICC(Max)(mA): 72; ICC(Typ)(mA): 35; Imod-max(Max)(mA): 45; SubFamily: Laser Driver; Tf-out(Typ)(ps): 25; VCC(V): 3.3; DatasheetVersion: SLLS750A; PackageVersion: revG, Jul-2011; PackageReference: RGP20-2700X2700TP; PackageDescription: 20-Pin Plastic Quad Flatpack No-Lead, 4 x 4 mm Body, 0.5 mm Pitch; Supplier 1: Digi-Key; Supplier Part Number 1: 296-20681-2-ND; Supplier 2: Digi-Key; Supplier Part Number 2: 296-20681-1-ND; Supplier 3: Digi-Key; Supplier Part Number 3: 296-20681-6-ND; Supplier 4: Newark; Supplier Part Number 4: 06M7523; Supplier 5: Mouser; Supplier Part Number 5: 595-ONET1191VRGPT; Automatic Power Control Loop: TRUE; Bias Current Digital Select: TRUE; Eco-Plan: Green (RoHS & no Sb/Br); Modulation Current Digital Select: TRUE; Tr-out(Typ)(ps): 20; Mounting Technology: Surface Mount; Code_JEDEC: MO-220; ComponentLink1Description: Datasheet; ComponentLink1URL: http://www.ti.com/general/docs/lit/getliterature.tsp?genericPartNumber=ONET1191V&fileType=pdf; ComponentLink2Description: URL Link1; ComponentLink2URL: SamplesURL:http://www.ti.com/product/onet1191v#samples
footprint RGP20-2700X2700TP (QFN, 20-Leads, Body 4x4mm, Pitch 0.5mm, Thermal Pad 2.7x2.7mm, TI Recommended)
pins: 1 DIS (in) "Disables both bias and modulation currents when set to high state. Toggle to reset a fault condition.", 2 RZTC "Connect external zero-TC, 28.7-k ohm resistor to ground (GND). Used to generate a defined zero-TC reference current for internal DACs.", 3 TS (out) "Temperature sensor output. Not buffered, capacitive load only.", 4 SCK (in) "Two-wire interface serial clock. Includes a 100-k ohm pullup resistor to VCC.", 5 SDA (in) "Two-wire interface serial data input. Includes a 100-k ohm pullup resistor to VCC.", 6 GND (power) "Circuit ground.", 7 DIN+ (in) "Noninverted data input. On-chip differentially 100- ohm terminated to DIN-. Must be ac-coupled.", 8 DIN- (in) "Inverted data input. On-chip differentially 100- ohm terminated to DIN+. Must be ac-coupled.", 9 GND (power) "Circuit ground.", 10 FLT (out) "Fault detection flag.", 11 BGV (oc) "Buffered bandgap voltage with open emitter output. This is a replica of the bandgap voltage at RZTC. For best matching, use the same 28.7-k ohm resistor to GND as used at RZTC.", 12 MONB (out) "Bias current monitor. Sources a 3.3% replica of the bias current. Connect an external resistor to  ground (GND). If the voltage at this pin exceeds 1.15 V, a fault is triggered. Typically, choose a resistor to give MONB (See Datasheet)", 13 MONP (out) "Photodiode current monitor. Sources a 50% replica of the photodiode current when PDR = 1 and a 250% replica when PDR = 0. Connect an external resistor (5 k ohm typical) to ground (GND).", 14 COMP "Compensation pin used to control the bandwidth of the APC loop. Connect a 0.01-uF capacitor to ground.", 15 PD (in) "Photodiode input. Pin can source or sink current dependent on PDP register setting. PDP = 0:source; PDP = 1: sink. Pin supplies >1.5-V reverse bias.", 16 BIAS "Sinks average bias current for VCSEL in both APC and open-loop modes. Connect to laser cathodethrough an inductor. BLM15HG102SN1D recommended.", 17 VCC (power) "3.3-V +/-10% supply voltage.", 18 MOD- (out) "Inverted modulation current output. On-chip, 55- ohm back-terminated to VCC.", 19 MOD+ (out) "Noninverted modulation current output. On-chip, 55- ohm back-terminated to VCC.", 20 VCC (power) "3.3-V +/-10% supply voltage.", 21 EP (power) "Exposed die pad (EP) must be grounded."

## ONET1191VRGPTG4
designator U?
11.3 Gbps Differential VCSEL Driver with 2 Wire Interface, 45 mA Imod-Max, 3.3 V, -40 to +85 degC, 20-pin QFN (RGP), Green (RoHS & no Sb/Br); Manufacturer: Texas Instruments; PartNumber: ONET1191VRGPTG4; 2-Wire Interface: TRUE; Data Rate(Typ)(Gbps): 11.3; DJ(Typ)(ps): 4; Ibias-max(Max)(mA): 20; ICC(Max)(mA): 72; ICC(Typ)(mA): 35; Imod-max(Max)(mA): 45; SubFamily: Laser Driver; Tf-out(Typ)(ps): 25; VCC(V): 3.3; DatasheetVersion: SLLS750A; PackageVersion: revG, Jul-2011; PackageReference: RGP20-2700X2700TP; PackageDescription: 20-Pin Plastic Quad Flatpack No-Lead, 4 x 4 mm Body, 0.5 mm Pitch; Supplier 1: Digi-Key; Supplier Part Number 1: ONET1191VRGPTG4-ND; Supplier 2: Newark; Supplier Part Number 2: 06M7524; Supplier 3: Mouser; Supplier Part Number 3: 595-ONET1191VRGPTG4; Automatic Power Control Loop: TRUE; Bias Current Digital Select: TRUE; Eco-Plan: Green (RoHS & no Sb/Br); Modulation Current Digital Select: TRUE; Tr-out(Typ)(ps): 20; Mounting Technology: Surface Mount; Code_JEDEC: MO-220; ComponentLink1Description: Datasheet; ComponentLink1URL: http://www.ti.com/general/docs/lit/getliterature.tsp?genericPartNumber=ONET1191V&fileType=pdf; ComponentLink2Description: URL Link1; ComponentLink2URL: SamplesURL:http://www.ti.com/product/onet1191v#samples
footprint RGP20-2700X2700TP (QFN, 20-Leads, Body 4x4mm, Pitch 0.5mm, Thermal Pad 2.7x2.7mm, TI Recommended)
pins: 1 DIS (in) "Disables both bias and modulation currents when set to high state. Toggle to reset a fault condition.", 2 RZTC "Connect external zero-TC, 28.7-k ohm resistor to ground (GND). Used to generate a defined zero-TC reference current for internal DACs.", 3 TS (out) "Temperature sensor output. Not buffered, capacitive load only.", 4 SCK (in) "Two-wire interface serial clock. Includes a 100-k ohm pullup resistor to VCC.", 5 SDA (in) "Two-wire interface serial data input. Includes a 100-k ohm pullup resistor to VCC.", 6 GND (power) "Circuit ground.", 7 DIN+ (in) "Noninverted data input. On-chip differentially 100- ohm terminated to DIN-. Must be ac-coupled.", 8 DIN- (in) "Inverted data input. On-chip differentially 100- ohm terminated to DIN+. Must be ac-coupled.", 9 GND (power) "Circuit ground.", 10 FLT (out) "Fault detection flag.", 11 BGV (oc) "Buffered bandgap voltage with open emitter output. This is a replica of the bandgap voltage at RZTC. For best matching, use the same 28.7-k ohm resistor to GND as used at RZTC.", 12 MONB (out) "Bias current monitor. Sources a 3.3% replica of the bias current. Connect an external resistor to  ground (GND). If the voltage at this pin exceeds 1.15 V, a fault is triggered. Typically, choose a resistor to give MONB (See Datasheet)", 13 MONP (out) "Photodiode current monitor. Sources a 50% replica of the photodiode current when PDR = 1 and a 250% replica when PDR = 0. Connect an external resistor (5 k ohm typical) to ground (GND).", 14 COMP "Compensation pin used to control the bandwidth of the APC loop. Connect a 0.01-uF capacitor to ground.", 15 PD (in) "Photodiode input. Pin can source or sink current dependent on PDP register setting. PDP = 0:source; PDP = 1: sink. Pin supplies >1.5-V reverse bias.", 16 BIAS "Sinks average bias current for VCSEL in both APC and open-loop modes. Connect to laser cathodethrough an inductor. BLM15HG102SN1D recommended.", 17 VCC (power) "3.3-V +/-10% supply voltage.", 18 MOD- (out) "Inverted modulation current output. On-chip, 55- ohm back-terminated to VCC.", 19 MOD+ (out) "Noninverted modulation current output. On-chip, 55- ohm back-terminated to VCC.", 20 VCC (power) "3.3-V +/-10% supply voltage.", 21 EP (power) "Exposed die pad (EP) must be grounded."

## ONET4201LDRGER
designator U?
155 Mbps to 4.25 Gbps Laser Driver with Active Back Termination, 85 mA Imod-Max, 3.3 V, -40 to +85 degC, 24-pin VQFN (RGE), Green (RoHS & no Sb/Br); Manufacturer: Texas Instruments; PartNumber: ONET4201LDRGER; Automatic Power Control Loop: TRUE; Data Rate(Typ)(Gbps): 0.155 to 4.25; DJ(Typ)(ps): 13; Ibias-max(Max)(mA): 100; ICC(Max)(mA): 55; ICC(Typ)(mA): 32; Imod-max(Max)(mA): 85; VCC(V): 3.3; DatasheetVersion: SLLS677A; PackageVersion: revG, Jul-2011; PackageReference: RGE24-2450X2450TP; PackageDescription: 24-Pin Plastic Quad Flatpack No-Lead, 4 x 4 mm Body, 0.5 mm Pitch; Supplier 1: Digi-Key; Supplier Part Number 1: 296-31699-2-ND; Supplier 2: Digi-Key; Supplier Part Number 2: 296-31699-1-ND; Supplier 3: Digi-Key; Supplier Part Number 3: 296-31699-6-ND; Supplier 4: Newark; Supplier Part Number 4: 67K8164; Supplier 5: Mouser; Supplier Part Number 5: 595-ONET4201LDRGER; Bias Current Digital Select: TRUE; Eco-Plan: Green (RoHS & no Sb/Br); Modulation Current Digital Select: TRUE; SubFamily: Laser Driver; Tf-out(Typ)(ps): 55; Tr-out(Typ)(ps): 55; Mounting Technology: Surface Mount; Code_JEDEC: MO-220; ComponentLink1Description: Datasheet; ComponentLink1URL: http://www.ti.com/general/docs/lit/getliterature.tsp?genericPartNumber=ONET4201LD&fileType=pdf; ComponentLink2Description: URL Link1; ComponentLink2URL: SamplesURL:http://www.ti.com/product/onet4201ld#samples
footprint RGE24-2450X2450TP (QFN, 24-Leads, Body 4x4mm, Pitch 0.5mm, Thermal Pad 2.45x2.45mm, TI Recommended)
pins: 1 GND (power) "Circuit ground.", 2 VCC (power) "3.3 V +/-10% supply voltage.", 3 DIN+ (in) "Noninverted data input. On-chip, 50-ohm terminated to VCC.", 4 DIN- (in) "Inverted data input. On-chip, 50-ohm terminated to VCC.", 5 VCC (power) "3.3 V +/-10% supply voltage.", 6 GND (power) "Circuit ground.", 7 MONP (out) "Photodiode current monitor sources a current identical to the photodiode current.", 8 MONB (out) "Bias current monitor sources 1/68 of the bias current.", 9 SDOWN (out) "Fault detection flag.", 10 FLTMODE (in) "Fault mode selection input. If a low level is applied to this pin, any fault event is latched and the bias and modulation currents are disabled in a fault condition. Toggling of DISABLE or VCC resets the fault condition. If (See Datasheet)", 11 MODSET (in) "Set temperature-independent modulation current with resistor to GND.", 12 MODTC (in) "Set modulation-current temperature compensation with resistor to GND.", 13 BIAS "Laser diode bias current sink. Connect to laser cathode.", 14 VCC (power) "3.3 V +/-10% supply voltage.", 15 MOD+ (oc) "Laser modulation current output. Connect to laser cathode. Avoid usage of vias on board.", 16 MOD- (oc) "Complementary laser modulation current output. Connect to VCC adjacent to anode of laser diode. Avoid usage of vias on board.", 17 VCC (power) "3.3 V +/-10% supply voltage.", 18 GND (power) "Circuit ground.", 19 PD (in) "Monitor photodiode input. Connect to photodiode anode for APC. Sinks the photodiode current to GND.", 20 CAPC "APC loop capacitor.", 21 IBMAX (in) "Set maximum laser diode current with resistor to GND.", 22 OUTPOL (in) "Alters modulation current output polarity. Open or high: normal polarity, low: inverted polarity. OUTPOL is pulled up internally. Normal polarity: when DIN+ is high, current is sunk into MOD+.", 23 APCSET (in) "Set photodiode reference current with resistor to GND.", 24 DISABLE (in) "Disable modulation and bias current outputs.", 25 EP (power) "The exposed die pad (EP) must be grounded."

## ONET4201LDRGERG4
designator U?
155 Mbps to 4.25 Gbps Laser Driver with Active Back Termination, 85 mA Imod-Max, 3.3 V, -40 to +85 degC, 24-pin VQFN (RGE), Green (RoHS & no Sb/Br); Manufacturer: Texas Instruments; PartNumber: ONET4201LDRGERG4; Automatic Power Control Loop: TRUE; Data Rate(Typ)(Gbps): 0.155 to 4.25; DJ(Typ)(ps): 13; Ibias-max(Max)(mA): 100; ICC(Max)(mA): 55; ICC(Typ)(mA): 32; Imod-max(Max)(mA): 85; VCC(V): 3.3; DatasheetVersion: SLLS677A; PackageVersion: revG, Jul-2011; PackageReference: RGE24-2450X2450TP; PackageDescription: 24-Pin Plastic Quad Flatpack No-Lead, 4 x 4 mm Body, 0.5 mm Pitch; Supplier 1: Digi-Key; Supplier Part Number 1: ONET4201LDRGERG4-ND; Supplier 2: Newark; Supplier Part Number 2: 70K4059; Supplier 3: Mouser; Supplier Part Number 3: 595-ONET4201LDRGERG4; Bias Current Digital Select: TRUE; Eco-Plan: Green (RoHS & no Sb/Br); Modulation Current Digital Select: TRUE; SubFamily: Laser Driver; Tf-out(Typ)(ps): 55; Tr-out(Typ)(ps): 55; Mounting Technology: Surface Mount; Code_JEDEC: MO-220; ComponentLink1Description: Datasheet; ComponentLink1URL: http://www.ti.com/general/docs/lit/getliterature.tsp?genericPartNumber=ONET4201LD&fileType=pdf; ComponentLink2Description: URL Link1; ComponentLink2URL: SamplesURL:http://www.ti.com/product/onet4201ld#samples
footprint RGE24-2450X2450TP (QFN, 24-Leads, Body 4x4mm, Pitch 0.5mm, Thermal Pad 2.45x2.45mm, TI Recommended)
pins: 1 GND (power) "Circuit ground.", 2 VCC (power) "3.3 V +/-10% supply voltage.", 3 DIN+ (in) "Noninverted data input. On-chip, 50-ohm terminated to VCC.", 4 DIN- (in) "Inverted data input. On-chip, 50-ohm terminated to VCC.", 5 VCC (power) "3.3 V +/-10% supply voltage.", 6 GND (power) "Circuit ground.", 7 MONP (out) "Photodiode current monitor sources a current identical to the photodiode current.", 8 MONB (out) "Bias current monitor sources 1/68 of the bias current.", 9 SDOWN (out) "Fault detection flag.", 10 FLTMODE (in) "Fault mode selection input. If a low level is applied to this pin, any fault event is latched and the bias and modulation currents are disabled in a fault condition. Toggling of DISABLE or VCC resets the fault condition. If (See Datasheet)", 11 MODSET (in) "Set temperature-independent modulation current with resistor to GND.", 12 MODTC (in) "Set modulation-current temperature compensation with resistor to GND.", 13 BIAS "Laser diode bias current sink. Connect to laser cathode.", 14 VCC (power) "3.3 V +/-10% supply voltage.", 15 MOD+ (oc) "Laser modulation current output. Connect to laser cathode. Avoid usage of vias on board.", 16 MOD- (oc) "Complementary laser modulation current output. Connect to VCC adjacent to anode of laser diode. Avoid usage of vias on board.", 17 VCC (power) "3.3 V +/-10% supply voltage.", 18 GND (power) "Circuit ground.", 19 PD (in) "Monitor photodiode input. Connect to photodiode anode for APC. Sinks the photodiode current to GND.", 20 CAPC "APC loop capacitor.", 21 IBMAX (in) "Set maximum laser diode current with resistor to GND.", 22 OUTPOL (in) "Alters modulation current output polarity. Open or high: normal polarity, low: inverted polarity. OUTPOL is pulled up internally. Normal polarity: when DIN+ is high, current is sunk into MOD+.", 23 APCSET (in) "Set photodiode reference current with resistor to GND.", 24 DISABLE (in) "Disable modulation and bias current outputs.", 25 EP (power) "The exposed die pad (EP) must be grounded."